# Altium footprint library 1208_LED.PcbLib: 1 footprints
Each footprint in its own frame and in the unit in brackets; x right, y up, seen from the top. Pads: shape width x height; smd on the part's side, far side on the other; paste and mask are expansions set on the pad; w line width, h text height; cw(c..) or ccw(c..) is an arc to the next point about the centre after c.
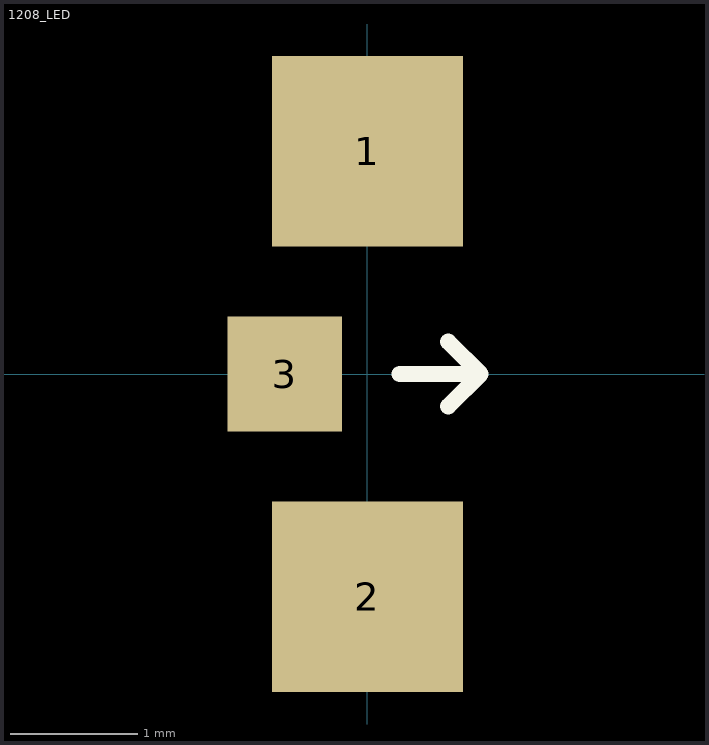
[diagram p0: the footprint, top view; thin cyan lines are the x and y axes]

## 1208_LED [mm]
pads (3):
  rect 1.5x1.5 smd: 1(0,1.75) 2(0,-1.75)
  rect 0.9x0.9 smd: 3(-0.65,0)
Top Overlay:
  lines w0.127: 0.254,0 0.889,0 ; 0.635,-0.254 0.889,0 ; 0.635,0.254 0.889,0